# EAGLE library part ADAV801 (library LMV358)
Audio Codec for Recordable DVD Auto generated by make-symbol-device-package-bsdl.ulp Rev. 33 Source: http://www.analog.com/static/imported-files/data_sheets/ADAV801.pdf
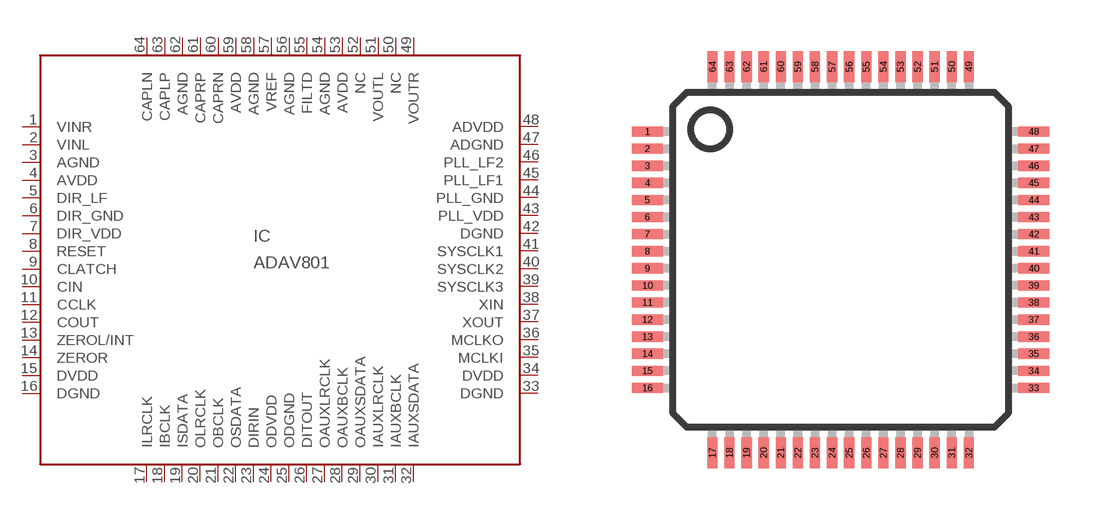
[diagram p126: symbol with the pads of LQFP-ST-64-2; footprint LQFP-ST-64-2]

Designator prefix IC

## ADAV801ST (MPN: ADAV801ASTZ; OC_FARNELL: 1438741; OC_NEWARK: 26R5500)  [LQFP-ST-64-2]
1  VINR  in
2  VINL  in
3  AGND  pwr
4  AVDD  pwr
5  DIR_LF  in
6  DIR_GND  in
7  DIR_VDD  in
8  RESET  in
9  CLATCH  in
10  CIN  in
11  CCLK  in
12  COUT  out
13  ZEROL/INT  out
14  ZEROR  out
15  DVDD  pwr
16  DGND  pwr
17  ILRCLK
18  IBCLK
19  ISDATA  in
20  OLRCLK
21  OBCLK
22  OSDATA  out
23  DIRIN  in
24  ODVDD  in
25  ODGND  in
26  DITOUT  out
27  OAUXLRCLK
28  OAUXBCLK
29  OAUXSDATA  out
30  IAUXLRCLK
31  IAUXBCLK
32  IAUXSDATA  in
33  DGND  pwr
34  DVDD  pwr
35  MCLKI  in
36  MCLKO  out
37  XOUT  in
38  XIN  in
39  SYSCLK3  out
40  SYSCLK2  out
41  SYSCLK1  out
42  DGND  pwr
43  PLL_VDD  in
44  PLL_GND  in
45  PLL_LF1  in
46  PLL_LF2  in
47  ADGND  pwr
48  ADVDD  pwr
49  VOUTR  out
50  NC  nc
51  VOUTL  out
52  NC  nc
53  AVDD  pwr
54  AGND  pwr
55  FILTD  in
56  AGND  pwr
57  VREF  in
58  AGND  pwr
59  AVDD  pwr
60  CAPRN  in
61  CAPRP  in
62  AGND  pwr
63  CAPLP  in
64  CAPLN  in

## Footprint LQFP-ST-64-2 (pad centres in mm)
64-Lead Low Profile Quad Flat Package [LQFP] (ST-64-2) COMPLIANT TO JEDEC STANDARDS MS-026-BCD Source: http://www.analog.com/UploadedFiles/Data_Sheets/288945048AD7C7019_20_1_2_4_5_6_7_0.pdf
smd 0.9 x 0.3: 1 -5.65,3.75; 2 -5.65,3.25; 3 -5.65,2.75; 4 -5.65,2.25; 5 -5.65,1.75; 6 -5.65,1.25; 7 -5.65,0.75; 8 -5.65,0.25; 9 -5.65,-0.25; 10 -5.65,-0.75; 11 -5.65,-1.25; 12 -5.65,-1.75; 13 -5.65,-2.25; 14 -5.65,-2.75; 15 -5.65,-3.25; 16 -5.65,-3.75; 33 5.65,-3.75; 34 5.65,-3.25; 35 5.65,-2.75; 36 5.65,-2.25; 37 5.65,-1.75; 38 5.65,-1.25; 39 5.65,-0.75; 40 5.65,-0.25; 41 5.65,0.25; 42 5.65,0.75; 43 5.65,1.25; 44 5.65,1.75; 45 5.65,2.25; 46 5.65,2.75; 47 5.65,3.25; 48 5.65,3.75
smd 0.3 x 0.9: 17 -3.75,-5.65; 18 -3.25,-5.65; 19 -2.75,-5.65; 20 -2.25,-5.65; 21 -1.75,-5.65; 22 -1.25,-5.65; 23 -0.75,-5.65; 24 -0.25,-5.65; 25 0.25,-5.65; 26 0.75,-5.65; 27 1.25,-5.65; 28 1.75,-5.65; 29 2.25,-5.65; 30 2.75,-5.65; 31 3.25,-5.65; 32 3.75,-5.65; 49 3.75,5.65; 50 3.25,5.65; 51 2.75,5.65; 52 2.25,5.65; 53 1.75,5.65; 54 1.25,5.65; 55 0.75,5.65; 56 0.25,5.65; 57 -0.25,5.65; 58 -0.75,5.65; 59 -1.25,5.65; 60 -1.75,5.65; 61 -2.25,5.65; 62 -2.75,5.65; 63 -3.25,5.65; 64 -3.75,5.65